# EAGLE library part TLP2270 (library FaBo_Photocoupler)
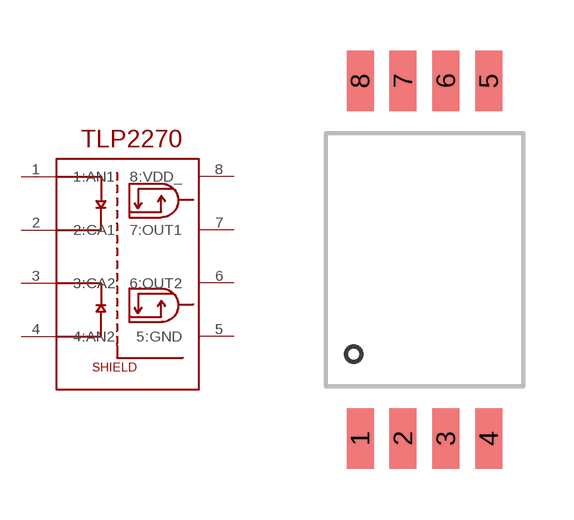
[diagram p0: symbol with the pads of TLP2270; footprint TLP2270]

Designator prefix -

## TLP2270  [TLP2270]
1  1:AN1
2  2:CA1
3  3:CA2
4  4:AN2
5  5:GND
6  6:OUT2
7  7:OUT1
8  8:VDD_

## Footprint TLP2270 (pad centres in mm)
smd 0.8 x 1.8: 1 -1.905,-5.3; 2 -0.635,-5.3; 3 0.635,-5.3; 4 1.905,-5.3; 5 1.905,5.3; 6 0.635,5.3; 7 -0.635,5.3; 8 -1.905,5.3